# Altium integrated library Infineon_Power_MOSFET.IntLib: 1448 symbols (part 28 of 47)
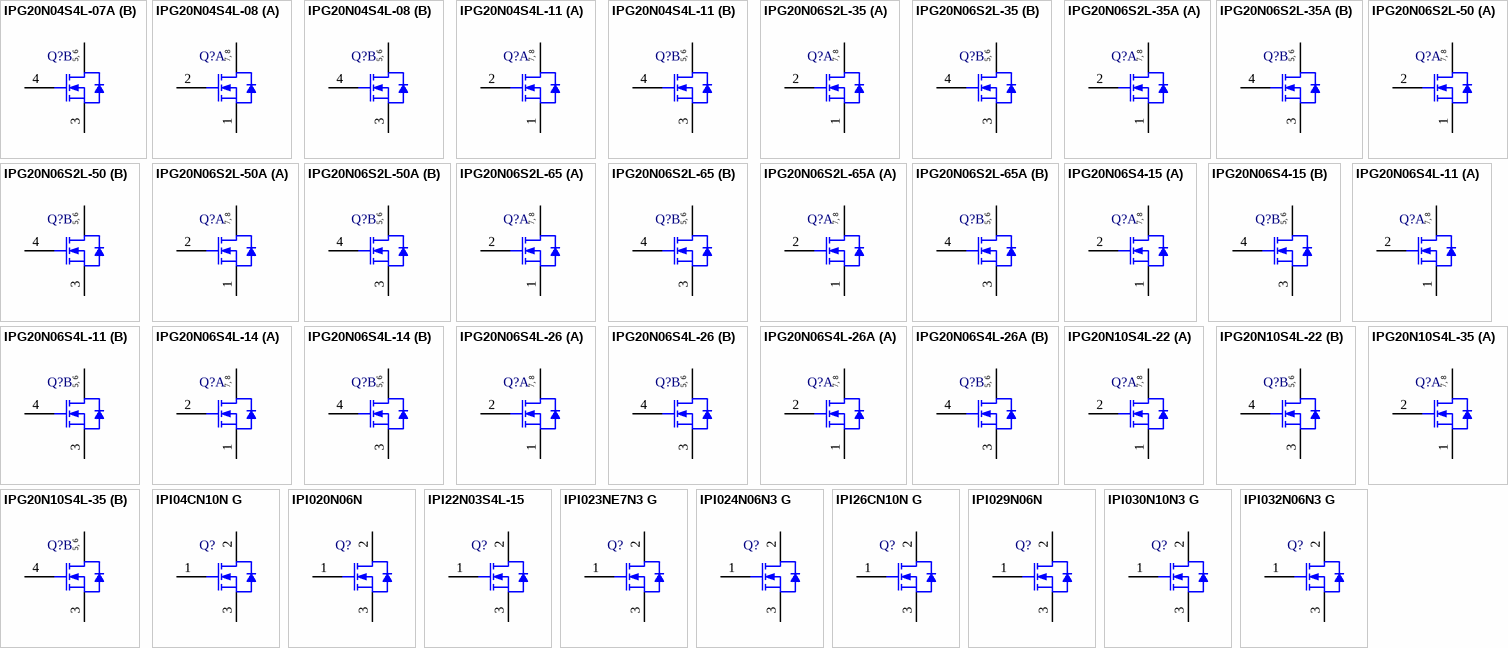
[diagram p64: symbols IPG20N04S4L-07A to IPI032N06N3 G]

## IPG20N04S4L-11
designator Q?
OptiMOS-T2 Power-Transistor, 40 V VDS, 20 A ID, PG-TDSON-8-4, Reel, Green; Manufacturer: Infineon; PartNumber: IPG20N04S4L-11; Green: TRUE; ID (max): 20 A; IDpuls (max): 80 A; Ptot (max): 41 W; QG: 20 nC; RDS (on) (max) (@10V): 11.6 mOhm; RDS (on) (max) (@4.5V): 15.5 mOhm; RthJC (max): 3.7 K/W; VDS (max): 40 V; VGS(th) (max): 2.2 V; VGS(th) (min): 1.2 V; DatasheetVersion: Rev. 1.0; PackageVersion: V03; PackageReference: PG-TDSON-8-4; PackageDescription: 8-Pin Plastic (Green) Thin Dual Small Outline Non Leaded Package, 5.15 x 5.9 mm Body, 1.27 mm Pitch; Supplier 1: Mouser; Supplier Part Number 1: 726-IPG20N04S4L-11; Halogen-free: TRUE; Packing: Reel; Technology: OptiMOS-T2; Mounting Technology: Surface Mount; ComponentLink1Description: Manufacturer URL; ComponentLink1URL: http://www.infineon.com/; ComponentLink2Description: Datasheet; ComponentLink2URL: http://www.infineon.com/dgdl/IPG20N04S4L-11_DS_1_0.pdf?folderId=db3a3043156fd5730115c7d50620107c&fileId=db3a30432ba3fa6f012bbf644b016c14&location=en.Products.Automotive_ICs.Automotive_MOSFETs.Dual__N-Channel_40V_MOSFETs.DATASHEET.IPG20N04S4L-11_DS_1_0.pdf; ComponentLink3Description: Package Specification; ComponentLink3URL: http://www.infineon.com/cms/packages/SMD_-_Surface_Mounted_Devices/P-PG-TDSON/P-PG-TDSON-08-04.html?__locale=en
footprint INF-PG-TDSON-8-4_V (SON, 8-Leads, Body 5.9x5.15mm, Pitch 1.27mm)
part A pins: 1 SOURCE, 2 GATE, 7 DRAIN, 8 DRAIN
part B pins: 3 SOURCE, 4 GATE, 5 DRAIN, 6 DRAIN
part A text: 7, 8
part B text: 5, 6

## IPG20N06S2L-35
designator Q?
OptiMOS Power-Transistor, 55 V VDS, 20 A ID, PG-TDSON-8-4, Reel, Green; Manufacturer: Infineon; PartNumber: IPG20N06S2L-35; Green: TRUE; ID (max): 20 A; IDpuls (max): 80 A; Ptot (max): 65 W; QG: 18 nC; RDS (on) (max) (@10V): 35 mOhm; RDS (on) (max) (@4.5V): 44 mOhm; RthJC (max): 2.3 K/W; VDS (max): 55 V; VGS(th) (max): 2.2 V; VGS(th) (min): 1.2 V; DatasheetVersion: Rev. 1.0; PackageVersion: V03; PackageReference: PG-TDSON-8-4; PackageDescription: 8-Pin Plastic (Green) Thin Dual Small Outline Non Leaded Package, 5.15 x 5.9 mm Body, 1.27 mm Pitch; Supplier 1: Mouser; Supplier Part Number 1: 726-IPG20N06S2L-35; Supplier 2: Digi-Key; Supplier Part Number 2: IPG20N06S2L-35-ND; Halogen-free: TRUE; Packing: Reel; Technology: OptiMOS; Mounting Technology: Surface Mount; ComponentLink1Description: Manufacturer URL; ComponentLink1URL: http://www.infineon.com/; ComponentLink2Description: Datasheet; ComponentLink2URL: http://www.infineon.com/dgdl/IPG20N06S2L-35_DS_10.pdf?folderId=db3a304412b407950112b4322c6d574b&fileId=db3a30432313ff5e0123a3b9596f2692&location=en.Products.Automotive_ICs.Automotive_MOSFETs.Dual__N-Channel_55V_MOSFETs.DATASHEET.IPG20N06S2L-35_DS_10.pdf; ComponentLink3Description: Package Specification; ComponentLink3URL: http://www.infineon.com/cms/packages/SMD_-_Surface_Mounted_Devices/P-PG-TDSON/P-PG-TDSON-08-04.html?__locale=en
footprint INF-PG-TDSON-8-4_V (SON, 8-Leads, Body 5.9x5.15mm, Pitch 1.27mm)
part A pins: 1 SOURCE, 2 GATE, 7 DRAIN, 8 DRAIN
part B pins: 3 SOURCE, 4 GATE, 5 DRAIN, 6 DRAIN
part A text: 7, 8
part B text: 5, 6

## IPG20N06S2L-35A
designator Q?
OptiMOS Power-Transistor, 55 V VDS, 20 A ID, PG-TDSON-8-10, Reel, Green; Manufacturer: Infineon; PartNumber: IPG20N06S2L-35A; Green: TRUE; ID (max): 20 A; IDpuls (max): 80 A; Ptot (max): 65 W; QG: 18 nC; RDS (on) (max) (@10V): 35 mOhm; RDS (on) (max) (@4.5V): 44 mOhm; RthJC (max): 2.3 K/W; VDS (max): 55 V; VGS(th) (max): 2.2 V; VGS(th) (min): 1.2 V; DatasheetVersion: Rev. 1.0; PackageVersion: V03; PackageReference: PG-TDSON-8-10; PackageDescription: 8-Pin Plastic (Green) Thin Dual Small Outline Non Leaded Package, 5.15 x 5.9 mm Body, 1.27 mm Pitch; Halogen-free: TRUE; Packing: Reel; Technology: OptiMOS; Mounting Technology: Surface Mount; ComponentLink1Description: Manufacturer URL; ComponentLink1URL: http://www.infineon.com/; ComponentLink2Description: Datasheet; ComponentLink2URL: http://www.infineon.com/dgdl/IPG20N06S2L-35A_DS_10.pdf?folderId=db3a3043156fd5730115c7d50620107c&fileId=db3a30433d346a2d013d4550adaa5193&location=en.Products.Automotive_ICs.Automotive_MOSFETs.Dual__N-Channel_55V_MOSFETs.DATASHEET.IPG20N06S2L-35A_DS_10.pdf; ComponentLink3Description: Package Specification; ComponentLink3URL: http://www.infineon.com/cms/packages/SMD_-_Surface_Mounted_Devices/P-PG-TDSON/P-PG-TDSON-08-10.html?__locale=en
footprint INF-PG-TDSON-8-10_V (SON, 8-Leads, Body 5.9x5.15mm, Pitch 1.27mm)
part A pins: 1 SOURCE, 2 GATE, 7 DRAIN, 8 DRAIN
part B pins: 3 SOURCE, 4 GATE, 5 DRAIN, 6 DRAIN
part A text: 7, 8
part B text: 5, 6

## IPG20N06S2L-50
designator Q?
OptiMOS Power-Transistor, 55 V VDS, 20 A ID, PG-TDSON-8-4, Reel, Green; Manufacturer: Infineon; PartNumber: IPG20N06S2L-50; Green: TRUE; ID (max): 20 A; IDpuls (max): 80 A; Ptot (max): 51 W; QG: 12.4 nC; RDS (on) (max) (@10V): 50 mOhm; RDS (on) (max) (@4.5V): 60 mOhm; RthJC (max): 2.9 K/W; VDS (max): 55 V; VGS(th) (max): 2.2 V; VGS(th) (min): 1.2 V; DatasheetVersion: Rev. 1.0; PackageVersion: V03; PackageReference: PG-TDSON-8-4; PackageDescription: 8-Pin Plastic (Green) Thin Dual Small Outline Non Leaded Package, 5.15 x 5.9 mm Body, 1.27 mm Pitch; Supplier 1: Mouser; Supplier Part Number 1: 726-IPG20N06S2L-50; Supplier 2: Digi-Key; Supplier Part Number 2: IPG20N06S2L-50-ND; Halogen-free: TRUE; Packing: Reel; Technology: OptiMOS; Mounting Technology: Surface Mount; ComponentLink1Description: Manufacturer URL; ComponentLink1URL: http://www.infineon.com/; ComponentLink2Description: Datasheet; ComponentLink2URL: http://www.infineon.com/dgdl/IPG20N06S2L-50_DS_10.pdf?folderId=db3a304412b407950112b4322c6d574b&fileId=db3a30432313ff5e0123a3bf936226b1&location=en.Products.Automotive_ICs.Automotive_MOSFETs.Dual__N-Channel_55V_MOSFETs.DATASHEET.IPG20N06S2L-50_DS_10.pdf; ComponentLink3Description: Package Specification; ComponentLink3URL: http://www.infineon.com/cms/packages/SMD_-_Surface_Mounted_Devices/P-PG-TDSON/P-PG-TDSON-08-04.html?__locale=en
footprint INF-PG-TDSON-8-4_V (SON, 8-Leads, Body 5.9x5.15mm, Pitch 1.27mm)
part A pins: 1 SOURCE, 2 GATE, 7 DRAIN, 8 DRAIN
part B pins: 3 SOURCE, 4 GATE, 5 DRAIN, 6 DRAIN
part A text: 7, 8
part B text: 5, 6

## IPG20N06S2L-50A
designator Q?
OptiMOS Power-Transistor, 55 V VDS, 20 A ID, PG-TDSON-8-10, Reel, Green; Manufacturer: Infineon; PartNumber: IPG20N06S2L-50A; Green: TRUE; ID (max): 20 A; IDpuls (max): 80 A; Ptot (max): 51 W; QG: 12.4 nC; RDS (on) (max) (@10V): 50 mOhm; RDS (on) (max) (@4.5V): 60 mOhm; RthJC (max): 2.9 K/W; VDS (max): 55 V; VGS(th) (max): 2.2 V; VGS(th) (min): 1.2 V; DatasheetVersion: Rev. 1.0; PackageVersion: V03; PackageReference: PG-TDSON-8-10; PackageDescription: 8-Pin Plastic (Green) Thin Dual Small Outline Non Leaded Package, 5.15 x 5.9 mm Body, 1.27 mm Pitch; Supplier 1: Mouser; Supplier Part Number 1: N/A; Halogen-free: TRUE; Packing: Reel; Technology: OptiMOS; Mounting Technology: Surface Mount; ComponentLink1Description: Manufacturer URL; ComponentLink1URL: http://www.infineon.com/; ComponentLink2Description: Datasheet; ComponentLink2URL: http://www.infineon.com/dgdl/IPG20N06S2L-50A_DS_1_0.pdf?folderId=db3a3043156fd5730115c7d50620107c&fileId=db3a30433d346a2d013d4552ed7b51ae&location=en.Products.Automotive_ICs.Automotive_MOSFETs.Dual__N-Channel_55V_MOSFETs.DATASHEET.IPG20N06S2L-50A_DS_1_0.pdf; ComponentLink3Description: Package Specification; ComponentLink3URL: http://www.infineon.com/cms/packages/SMD_-_Surface_Mounted_Devices/P-PG-TDSON/P-PG-TDSON-08-10.html?__locale=en
footprint INF-PG-TDSON-8-10_V (SON, 8-Leads, Body 5.9x5.15mm, Pitch 1.27mm)
part A pins: 1 SOURCE, 2 GATE, 7 DRAIN, 8 DRAIN
part B pins: 3 SOURCE, 4 GATE, 5 DRAIN, 6 DRAIN
part A text: 7, 8
part B text: 5, 6

## IPG20N06S2L-65
designator Q?
OptiMOS Power-Transistor, 55 V VDS, 20 A ID, PG-TDSON-8-4, Reel, Green; Manufacturer: Infineon; PartNumber: IPG20N06S2L-65; Green: TRUE; ID (max): 20 A; IDpuls (max): 80 A; Ptot (max): 43 W; QG: 10 nC; RDS (on) (max) (@10V): 65 mOhm; RDS (on) (max) (@4.5V): 79 mOhm; RthJC (max): 3.5 K/W; VDS (max): 55 V; VGS(th) (max): 2.2 V; VGS(th) (min): 1.2 V; DatasheetVersion: Rev. 1.0; PackageVersion: V03; PackageReference: PG-TDSON-8-4; PackageDescription: 8-Pin Plastic (Green) Thin Dual Small Outline Non Leaded Package, 5.15 x 5.9 mm Body, 1.27 mm Pitch; Supplier 1: Mouser; Supplier Part Number 1: 726-IPG20N06S2L-65; Supplier 2: Digi-Key; Supplier Part Number 2: IPG20N06S2L-65-ND; Halogen-free: TRUE; Packing: Reel; Technology: OptiMOS; Mounting Technology: Surface Mount; ComponentLink1Description: Manufacturer URL; ComponentLink1URL: http://www.infineon.com/; ComponentLink2Description: Datasheet; ComponentLink2URL: http://www.infineon.com/dgdl/IPG20N06S2L-65_DS_10.pdf?folderId=db3a304412b407950112b4322c6d574b&fileId=db3a30432313ff5e0123a3c2672326cf&location=en.Products.Automotive_ICs.Automotive_MOSFETs.Dual__N-Channel_55V_MOSFETs.DATASHEET.IPG20N06S2L-65_DS_10.pdf; ComponentLink3Description: Package Specification; ComponentLink3URL: http://www.infineon.com/cms/packages/SMD_-_Surface_Mounted_Devices/P-PG-TDSON/P-PG-TDSON-08-04.html?__locale=en
footprint INF-PG-TDSON-8-4_V (SON, 8-Leads, Body 5.9x5.15mm, Pitch 1.27mm)
part A pins: 1 SOURCE, 2 GATE, 7 DRAIN, 8 DRAIN
part B pins: 3 SOURCE, 4 GATE, 5 DRAIN, 6 DRAIN
part A text: 7, 8
part B text: 5, 6

## IPG20N06S2L-65A
designator Q?
OptiMOS Power-Transistor, 55 V VDS, 20 A ID, PG-TDSON-8-10, Reel, Green; Manufacturer: Infineon; PartNumber: IPG20N06S2L-65A; Green: TRUE; ID (max): 20 A; IDpuls (max): 80 A; Ptot (max): 43 W; QG: 10 nC; RDS (on) (max) (@10V): 65 mOhm; RDS (on) (max) (@4.5V): 79 mOhm; RthJC (max): 3.5 K/W; VDS (max): 55 V; VGS(th) (max): 2.2 V; VGS(th) (min): 1.2 V; DatasheetVersion: Rev. 1.0; PackageVersion: V03; PackageReference: PG-TDSON-8-10; PackageDescription: 8-Pin Plastic (Green) Thin Dual Small Outline Non Leaded Package, 5.15 x 5.9 mm Body, 1.27 mm Pitch; Halogen-free: TRUE; Packing: Reel; Technology: OptiMOS; Mounting Technology: Surface Mount; ComponentLink1Description: Manufacturer URL; ComponentLink1URL: http://www.infineon.com/; ComponentLink2Description: Datasheet; ComponentLink2URL: http://www.infineon.com/dgdl/IPG20N06S2L-65A_D_10.pdf?folderId=db3a3043156fd5730115c7d50620107c&fileId=db3a30433d346a2d013d4555276651ce&location=en.Products.Automotive_ICs.Automotive_MOSFETs.Dual__N-Channel_55V_MOSFETs.DATASHEET.IPG20N06S2L-65A_D_10.pdf; ComponentLink3Description: Package Specification; ComponentLink3URL: http://www.infineon.com/cms/packages/SMD_-_Surface_Mounted_Devices/P-PG-TDSON/P-PG-TDSON-08-10.html?__locale=en
footprint INF-PG-TDSON-8-10_V (SON, 8-Leads, Body 5.9x5.15mm, Pitch 1.27mm)
part A pins: 1 SOURCE, 2 GATE, 7 DRAIN, 8 DRAIN
part B pins: 3 SOURCE, 4 GATE, 5 DRAIN, 6 DRAIN
part A text: 7, 8
part B text: 5, 6

## IPG20N06S4-15
designator Q?
OptiMOS-T2 Power-Transistor, 60 V VDS, 20 A ID, PG-TDSON-8-4, Reel, Green; Manufacturer: Infineon; PartNumber: IPG20N06S4-15; Green: TRUE; ID (max): 20 A; IDpuls (max): 80 A; Ptot (max): 50 W; QG: 22 nC; RDS (on) (max) (@10V): 15.5 mOhm; RthJC (max): 3 K/W; VDS (max): 60 V; VGS(th) (max): 4 V; VGS(th) (min): 2 V; DatasheetVersion: Rev. 1.0; PackageVersion: V03; PackageReference: PG-TDSON-8-4; PackageDescription: 8-Pin Plastic (Green) Thin Dual Small Outline Non Leaded Package, 5.15 x 5.9 mm Body, 1.27 mm Pitch; Supplier 1: Mouser; Supplier Part Number 1: 726-IPG20N06S4-15; Halogen-free: TRUE; Packing: Reel; Technology: OptiMOS-T2; Mounting Technology: Surface Mount; ComponentLink1Description: Manufacturer URL; ComponentLink1URL: http://www.infineon.com/; ComponentLink2Description: Datasheet; ComponentLink2URL: http://www.infineon.com/dgdl/IPG20N06S4-15_DS_1_0.pdf?folderId=db3a3043156fd5730115c7d50620107c&fileId=db3a30432ba3fa6f012bbf657f886c19&location=en.Products.Automotive_ICs.Automotive_MOSFETs.Dual__N-Channel_60V_MOSFETs.DATASHEET.IPG20N06S4-15_DS_1_0.pdf; ComponentLink3Description: Package Specification; ComponentLink3URL: http://www.infineon.com/cms/packages/SMD_-_Surface_Mounted_Devices/P-PG-TDSON/P-PG-TDSON-08-04.html?__locale=en
footprint INF-PG-TDSON-8-4_V (SON, 8-Leads, Body 5.9x5.15mm, Pitch 1.27mm)
part A pins: 1 SOURCE, 2 GATE, 7 DRAIN, 8 DRAIN
part B pins: 3 SOURCE, 4 GATE, 5 DRAIN, 6 DRAIN
part A text: 7, 8
part B text: 5, 6

## IPG20N06S4L-11
designator Q?
OptiMOS-T2 Power-Transistor, 60 V VDS, 20 A ID, PG-TDSON-8-4, Reel, Green; Manufacturer: Infineon; PartNumber: IPG20N06S4L-11; Green: TRUE; ID (max): 20 A; IDpuls (max): 80 A; Ptot (max): 65 W; QG: 41 nC; RDS (on) (max) (@10V): 11.2 mOhm; RDS (on) (max) (@4.5V): 15.8 mOhm; RthJC (max): 2.3 K/W; VDS (max): 60 V; VGS(th) (max): 2.2 V; VGS(th) (min): 1.2 V; DatasheetVersion: Rev. 1.0; PackageVersion: V03; PackageReference: PG-TDSON-8-4; PackageDescription: 8-Pin Plastic (Green) Thin Dual Small Outline Non Leaded Package, 5.15 x 5.9 mm Body, 1.27 mm Pitch; Supplier 1: Mouser; Supplier Part Number 1: 726-IPG20N06S4L-11; Halogen-free: TRUE; Packing: Reel; Technology: OptiMOS-T2; Mounting Technology: Surface Mount; ComponentLink1Description: Manufacturer URL; ComponentLink1URL: http://www.infineon.com/; ComponentLink2Description: Datasheet; ComponentLink2URL: http://www.infineon.com/dgdl/IPG20N06S4L-11_DS_1_0.pdf?folderId=db3a3043156fd5730115c7d50620107c&fileId=db3a30432ba3fa6f012bbf66f8b06c1e&location=en.Products.Automotive_ICs.Automotive_MOSFETs.Dual__N-Channel_60V_MOSFETs.DATASHEET.IPG20N06S4L-11_DS_1_0.pdf; ComponentLink3Description: Package Specification; ComponentLink3URL: http://www.infineon.com/cms/packages/SMD_-_Surface_Mounted_Devices/P-PG-TDSON/P-PG-TDSON-08-04.html?__locale=en
footprint INF-PG-TDSON-8-4_V (SON, 8-Leads, Body 5.9x5.15mm, Pitch 1.27mm)
part A pins: 1 SOURCE, 2 GATE, 7 DRAIN, 8 DRAIN
part B pins: 3 SOURCE, 4 GATE, 5 DRAIN, 6 DRAIN
part A text: 7, 8
part B text: 5, 6

## IPG20N06S4L-14
designator Q?
OptiMOS-T2 Power-Transistor, 60 V VDS, 20 A ID, PG-TDSON-8-4, Reel, Green; Manufacturer: Infineon; PartNumber: IPG20N06S4L-14; Green: TRUE; ID (max): 20 A; IDpuls (max): 80 A; Ptot (max): 50 W; QG: 30 nC; RDS (on) (max) (@10V): 13.7 mOhm; RDS (on) (max) (@4.5V): 20 mOhm; RthJC (max): 3 K/W; VDS (max): 60 V; VGS(th) (max): 2.2 V; VGS(th) (min): 1.2 V; DatasheetVersion: Rev. 1.0; PackageVersion: V03; PackageReference: PG-TDSON-8-4; PackageDescription: 8-Pin Plastic (Green) Thin Dual Small Outline Non Leaded Package, 5.15 x 5.9 mm Body, 1.27 mm Pitch; Supplier 1: Mouser; Supplier Part Number 1: 726-IPG20N06S4L-14; Halogen-free: TRUE; Packing: Reel; Technology: OptiMOS-T2; Mounting Technology: Surface Mount; ComponentLink1Description: Manufacturer URL; ComponentLink1URL: http://www.infineon.com/; ComponentLink2Description: Datasheet; ComponentLink2URL: http://www.infineon.com/dgdl/IPG20N06S4L-14_DS_1_0.pdf?folderId=db3a3043156fd5730115c7d50620107c&fileId=db3a30432ba3fa6f012bbf67e32d6c23&location=en.Products.Automotive_ICs.Automotive_MOSFETs.Dual__N-Channel_60V_MOSFETs.DATASHEET.IPG20N06S4L-14_DS_1_0.pdf; ComponentLink3Description: Package Specification; ComponentLink3URL: http://www.infineon.com/cms/packages/SMD_-_Surface_Mounted_Devices/P-PG-TDSON/P-PG-TDSON-08-04.html?__locale=en
footprint INF-PG-TDSON-8-4_V (SON, 8-Leads, Body 5.9x5.15mm, Pitch 1.27mm)
part A pins: 1 SOURCE, 2 GATE, 7 DRAIN, 8 DRAIN
part B pins: 3 SOURCE, 4 GATE, 5 DRAIN, 6 DRAIN
part A text: 7, 8
part B text: 5, 6

## IPG20N06S4L-26
designator Q?
OptiMOS-T2 Power-Transistor, 60 V VDS, 20 A ID, PG-TDSON-8-4, Reel, Green; Manufacturer: Infineon; PartNumber: IPG20N06S4L-26; Green: TRUE; ID (max): 20 A; IDpuls (max): 80 A; Ptot (max): 33 W; QG: 20 nC; RDS (on) (max) (@10V): 26 mOhm; RDS (on) (max) (@4.5V): 46 mOhm; RthJC (max): 4.5 K/W; VDS (max): 60 V; VGS(th) (max): 2.2 V; VGS(th) (min): 1.2 V; DatasheetVersion: Rev. 1.0; PackageVersion: V03; PackageReference: PG-TDSON-8-4; PackageDescription: 8-Pin Plastic (Green) Thin Dual Small Outline Non Leaded Package, 5.15 x 5.9 mm Body, 1.27 mm Pitch; Supplier 1: Mouser; Supplier Part Number 1: 726-IPG20N06S4L-26; Halogen-free: TRUE; Packing: Reel; Technology: OptiMOS-T2; Mounting Technology: Surface Mount; ComponentLink1Description: Manufacturer URL; ComponentLink1URL: http://www.infineon.com/; ComponentLink2Description: Datasheet; ComponentLink2URL: http://www.infineon.com/dgdl/IPG20N06S4L-26_DS_1_0.pdf?folderId=db3a3043156fd5730115c7d50620107c&fileId=db3a30432ba3fa6f012bbf68dd216c28&location=en.Products.Automotive_ICs.Automotive_MOSFETs.Dual__N-Channel_60V_MOSFETs.DATASHEET.IPG20N06S4L-26_DS_1_0.pdf; ComponentLink3Description: Package Specification; ComponentLink3URL: http://www.infineon.com/cms/packages/SMD_-_Surface_Mounted_Devices/P-PG-TDSON/P-PG-TDSON-08-04.html?__locale=en
footprint INF-PG-TDSON-8-4_V (SON, 8-Leads, Body 5.9x5.15mm, Pitch 1.27mm)
part A pins: 1 SOURCE, 2 GATE, 7 DRAIN, 8 DRAIN
part B pins: 3 SOURCE, 4 GATE, 5 DRAIN, 6 DRAIN
part A text: 7, 8
part B text: 5, 6

## IPG20N06S4L-26A
designator Q?
OptiMOS-T2 Power-Transistor, 60 V VDS, 20 A ID, PG-TDSON-8-10, Reel, Green; Manufacturer: Infineon; PartNumber: IPG20N06S4L-26A; Green: TRUE; ID (max): 20 A; IDpuls (max): 80 A; Ptot (max): 33 W; QG: 20 nC; RDS (on) (max) (@10V): 26 mOhm; RDS (on) (max) (@4.5V): 46 mOhm; RthJC (max): 4.5 K/W; VDS (max): 60 V; VGS(th) (max): 2.2 V; VGS(th) (min): 1.2 V; DatasheetVersion: Rev. 1.0; PackageVersion: V03; PackageReference: PG-TDSON-8-10; PackageDescription: 8-Pin Plastic (Green) Thin Dual Small Outline Non Leaded Package, 5.15 x 5.9 mm Body, 1.27 mm Pitch; Supplier 1: Mouser; Supplier Part Number 1: N/A; Halogen-free: TRUE; Packing: Reel; Technology: OptiMOS-T2; Mounting Technology: Surface Mount; ComponentLink1Description: Manufacturer URL; ComponentLink1URL: http://www.infineon.com/; ComponentLink2Description: Datasheet; ComponentLink2URL: http://www.infineon.com/dgdl/IPG20N06S4L-26A_DS_1_0.pdf?folderId=db3a3043156fd5730115c7d50620107c&fileId=db3a30433d346a2d013d454e0c275177&location=en.Products.Automotive_ICs.Automotive_MOSFETs.Dual__N-Channel_60V_MOSFETs.DATASHEET.IPG20N06S4L-26A_DS_1_0.pdf; ComponentLink3Description: Package Specification; ComponentLink3URL: http://www.infineon.com/cms/packages/SMD_-_Surface_Mounted_Devices/P-PG-TDSON/P-PG-TDSON-08-10.html?__locale=en
footprint INF-PG-TDSON-8-10_V (SON, 8-Leads, Body 5.9x5.15mm, Pitch 1.27mm)
part A pins: 1 SOURCE, 2 GATE, 7 DRAIN, 8 DRAIN
part B pins: 3 SOURCE, 4 GATE, 5 DRAIN, 6 DRAIN
part A text: 7, 8
part B text: 5, 6

## IPG20N10S4L-22
designator Q?
OptiMOS-T2 Power-Transistor, 100 V VDS, 20 A ID, PG-TDSON-8-4, Reel, Green; Manufacturer: Infineon; PartNumber: IPG20N10S4L-22; Green: TRUE; ID (max): 20 A; IDpuls (max): 80 A; Ptot (max): 60 W; QG: 21 nC; RDS (on) (max) (@10V): 22 mOhm; RDS (on) (max) (@4.5V): 28 mOhm; RthJC (max): 2.5 K/W; VDS (max): 100 V; VGS(th) (max): 2.1 V; VGS(th) (min): 1.1 V; DatasheetVersion: Rev. 1.1; PackageVersion: V03; PackageReference: PG-TDSON-8-4; PackageDescription: 8-Pin Plastic (Green) Thin Dual Small Outline Non Leaded Package, 5.15 x 5.9 mm Body, 1.27 mm Pitch; Halogen-free: TRUE; Packing: Reel; Technology: OptiMOS-T2; Mounting Technology: Surface Mount; ComponentLink1Description: Manufacturer URL; ComponentLink1URL: http://www.infineon.com/; ComponentLink2Description: Datasheet; ComponentLink2URL: http://www.infineon.com/dgdl/IPG20N10S4L-22_DS_1_1.pdf?folderId=db3a3043156fd5730115c7d50620107c&fileId=db3a3043372d5cc801374ffbdf9504fd&location=en.Products.Automotive_ICs.Automotive_MOSFETs.Dual__N-Channel_100V_MOSFETs.DATASHEET.IPG20N10S4L-22_DS_1_1.pdf; ComponentLink3Description: Package Specification; ComponentLink3URL: http://www.infineon.com/cms/packages/SMD_-_Surface_Mounted_Devices/P-PG-TDSON/P-PG-TDSON-08-04.html?__locale=en
footprint INF-PG-TDSON-8-4_V (SON, 8-Leads, Body 5.9x5.15mm, Pitch 1.27mm)
part A pins: 1 SOURCE, 2 GATE, 7 DRAIN, 8 DRAIN
part B pins: 3 SOURCE, 4 GATE, 5 DRAIN, 6 DRAIN
part A text: 7, 8
part B text: 5, 6

## IPG20N10S4L-35
designator Q?
OptiMOS-T2 Power-Transistor, 100 V VDS, 20 A ID, PG-TDSON-8-4, Reel, Green; Manufacturer: Infineon; PartNumber: IPG20N10S4L-35; Green: TRUE; ID (max): 20 A; IDpuls (max): 80 A; Ptot (max): 43 W; QG: 13.4 nC; RDS (on) (max) (@10V): 35 mOhm; RDS (on) (max) (@4.5V): 45 mOhm; RthJC (max): 3.5 K/W; VDS (max): 100 V; VGS(th) (max): 2.1 V; VGS(th) (min): 1.1 V; DatasheetVersion: Rev. 1.1; PackageVersion: V03; PackageReference: PG-TDSON-8-4; PackageDescription: 8-Pin Plastic (Green) Thin Dual Small Outline Non Leaded Package, 5.15 x 5.9 mm Body, 1.27 mm Pitch; Halogen-free: TRUE; Packing: Reel; Technology: OptiMOS-T2; Mounting Technology: Surface Mount; ComponentLink1Description: Manufacturer URL; ComponentLink1URL: http://www.infineon.com/; ComponentLink2Description: Datasheet; ComponentLink2URL: http://www.infineon.com/dgdl/IPG20N10S4L-35_DS_1_1.pdf?folderId=db3a3043156fd5730115c7d50620107c&fileId=db3a3043372d5cc8013750d7337e05fd&location=en.Products.Automotive_ICs.Automotive_MOSFETs.Dual__N-Channel_100V_MOSFETs.DATASHEET.IPG20N10S4L-35_DS_1_1.pdf; ComponentLink3Description: Package Specification; ComponentLink3URL: http://www.infineon.com/cms/packages/SMD_-_Surface_Mounted_Devices/P-PG-TDSON/P-PG-TDSON-08-04.html?__locale=en
footprint INF-PG-TDSON-8-4_V (SON, 8-Leads, Body 5.9x5.15mm, Pitch 1.27mm)
part A pins: 1 SOURCE, 2 GATE, 7 DRAIN, 8 DRAIN
part B pins: 3 SOURCE, 4 GATE, 5 DRAIN, 6 DRAIN
part A text: 7, 8
part B text: 5, 6

## IPI04CN10N G
designator Q?
N-Channel OptiMOS 2 Power-Transistor, 100 V VDS, 100 A ID, -55 to 175 degC, PG-TO-262-3-1, Tube, Green; Manufacturer: Infineon; PartNumber: IPI04CN10N G; Green: TRUE; ID (max): 100 A; IDpuls (max): 400 A; Polarity: N; Ptot (max): 300 W; QG: 158 nC; RDS (on) (max): 3.9 mOhm; Rth: 0.5 K/W; RthJA (max): 62 K/W; VDS (max): 100 V; VGS(th) (max): 4 V; VGS(th) (min): 2 V; DatasheetVersion: Rev. 1.4; PackageVersion: Jun-05; PackageReference: PG-TO-262-3-1; PackageDescription: 3-Pin Plastic (Green) Transistor Single Outline Package, 10 x 9.25 mm Body, 2.54 mm Pitch; Supplier 1: Digi-Key; Supplier Part Number 1: IPI04CN10N G-ND; Halogen-free: TRUE; Packing: Tube; RthJC (max): 0.5 K/W; Mounting Technology: Through Hole; ComponentLink1Description: Manufacturer URL; ComponentLink1URL: http://www.infineon.com/; ComponentLink2Description: Datasheet; ComponentLink2URL: http://www.infineon.com/dgdl/IPP04CN10N_Rev1.4.pdf?folderId=db3a304313b8b5a60113cee8763b02d7&fileId=db3a30432313ff5e012393a80d1d03d8; ComponentLink3Description: Package Specification; ComponentLink3URL: http://www.infineon.com/dgdl/IPP04CN10N_Rev1.4.pdf?folderId=db3a304313b8b5a60113cee8763b02d7&fileId=db3a30432313ff5e012393a80d1d03d8
footprint INF-PG-TO-262-3-1 (FM, 3-Leads, Body 10x4.4mm, Pitch 2.54mm)
pins: 1 GATE, 2 DRAIN, 3 SOURCE

## IPI020N06N
designator Q?
N-Channel OptiMOS Power-Transistor, 60 V VDS, 120 A ID, -55 to 175 degC, PG-TO262-3-1, Tube, Green; Manufacturer: Infineon; PartNumber: IPI020N06N; Green: TRUE; ID (max): 120 A; IDpuls (max): 480 A; Polarity: N; Ptot (max): 214 W; QG: 106 nC; RDS (on) (max): 2 mOhm; Rth: 0.7 K/W; RthJA (max): 62 K/W; VDS (max): 60 V; VGS(th) (max): 3.3 V; VGS(th) (min): 2.1 V; DatasheetVersion: Rev. 2.2; PackageVersion: Rev. 03, 05/2006; PackageReference: PG-TO262-3-1; PackageDescription: 3-Pin Plastic (Green) Transistor Single Outline Package, 10.03 x 8.98 mm Body, 2.54 mm Pitch; Supplier 1: Digi-Key; Supplier Part Number 1: IPI020N06N-ND; Halogen-free: TRUE; Packing: Tube; RthJC (max): 0.7 K/W; Mounting Technology: Through Hole; ComponentLink1Description: Manufacturer URL; ComponentLink1URL: http://www.infineon.com/; ComponentLink2Description: Datasheet; ComponentLink2URL: http://www.infineon.com/dgdl/IPI020N06N_Rev2.2.pdf?folderId=db3a304313b8b5a60113cee8763b02d7&fileId=db3a30433727a44301372b6b23064900; ComponentLink3Description: Package Specification; ComponentLink3URL: http://www.infineon.com/dgdl/DS_IPX65R420CFD_2_4.pdf?folderId=db3a3043156fd5730115c736bcc70ff2&fileId=db3a30432f91014f012f9c293f1a7399
footprint INF-PG-TO262-3-1_A (FM, 3-Leads, Body 10.03x4.436mm, Pitch 2.54mm)
pins: 1 GATE, 2 DRAIN, 3 SOURCE

## IPI22N03S4L-15
designator Q?
OptiMOS-T2 Power-Transistor, 30 V VDS, 22 A ID, PG-TO262-3-1, Tube, Green; Manufacturer: Infineon; PartNumber: IPI22N03S4L-15; Green: TRUE; ID (max): 22 A; IDpuls (max): 88 A; Ptot (max): 31 W; QG: 11 nC; RDS (on) (max) (@10V): 14.9 mOhm; RDS (on) (max) (@4.5V): 19.8 mOhm; RthJC (max): 4.9 K/W; VDS (max): 30 V; VGS(th) (max): 2.2 V; VGS(th) (min): 1 V; DatasheetVersion: Rev. 2.0; PackageReference: PG-TO262-3-1; PackageDescription: 3-Pin Plastic (Green) Transistor Single Outline Package, 10 x 9.25 mm Body, 2.54 mm Pitch; Supplier 1: Mouser; Supplier Part Number 1: 726-IPI22N03S4L-15; Supplier 2: Digi-Key; Supplier Part Number 2: IPI22N03S4L-15-ND; Halogen-free: TRUE; Packing: Tube; Technology: OptiMOS-T2; Mounting Technology: Through Hole; ComponentLink1Description: Manufacturer URL; ComponentLink1URL: http://www.infineon.com/; ComponentLink2Description: Datasheet; ComponentLink2URL: http://www.infineon.com/dgdl/IPP_B_I22N03S4L-15_DS_2_0.pdf?folderId=db3a304412b407950112b426f7da3b27&fileId=db3a304412b407950112b426fb903b3b&location=en.Products.Automotive_ICs.Automotive_MOSFETs.Single__N-Channel_30V_MOSFETs.DATASHEET.IPP_B_I22N03S4L-15_DS_2_0.pdf; ComponentLink3Description: Package Specification; ComponentLink3URL: http://www.infineon.com/cms/packages/Leaded_and_through-hole/P-PG-TO262/P-PG-TO262-3-1.html?__locale=en
footprint INF-PG-TO262-3-1 (FM, 3-Leads, Body 10x4.4mm, Pitch 2.54mm)
pins: 1 GATE, 2 DRAIN, 3 SOURCE

## IPI023NE7N3 G
designator Q?
N-Channel OptiMOS 3 Power-Transistor, 75 V VDS, 120 A ID, -55 to 175 degC, PG-TO262-3-1, Tube, Green; Manufacturer: Infineon; PartNumber: IPI023NE7N3 G; Green: TRUE; ID (max): 120 A; IDpuls (max): 480 A; Polarity: N; Ptot (max): 300 W; QG: 155 nC; RDS (on) (max): 2.3 mOhm; Rth: 0.5 K/W; RthJA (max): 62 K/W; VDS (max): 75 V; VGS(th) (max): 3.8 V; VGS(th) (min): 2.3 V; DatasheetVersion: Rev. 2.11; PackageVersion: Rev. 03, 05/2006; PackageReference: PG-TO262-3-1; PackageDescription: 3-Pin Plastic (Green) Transistor Single Outline Package, 10.03 x 8.98 mm Body, 2.54 mm Pitch; Supplier 1: Mouser; Supplier Part Number 1: 726-IPI023NE7N3G; Supplier 2: Digi-Key; Supplier Part Number 2: IPI023NE7N3 G-ND; Halogen-free: TRUE; Packing: Tube; RthJC (max): 0.5 K/W; Mounting Technology: Through Hole; ComponentLink1Description: Manufacturer URL; ComponentLink1URL: http://www.infineon.com/; ComponentLink2Description: Datasheet; ComponentLink2URL: http://www.infineon.com/dgdl/IPP_I023NE7N3_Rev2+11.pdf?folderId=db3a304313b8b5a60113cee8763b02d7&fileId=db3a304320d39d5901210a9da8c22702; ComponentLink3Description: Package Specification; ComponentLink3URL: http://www.infineon.com/dgdl/DS_IPX65R420CFD_2_4.pdf?folderId=db3a3043156fd5730115c736bcc70ff2&fileId=db3a30432f91014f012f9c293f1a7399
footprint INF-PG-TO262-3-1_A (FM, 3-Leads, Body 10.03x4.436mm, Pitch 2.54mm)
pins: 1 GATE, 2 DRAIN, 3 SOURCE

## IPI024N06N3 G
designator Q?
N-Channel OptiMOS 3 Power-Transistor, 60 V VDS, 120 A ID, -55 to 175 degC, PG-TO262-3-1, Tube, Green; Manufacturer: Infineon; PartNumber: IPI024N06N3 G; Green: TRUE; ID (max): 120 A; IDpuls (max): 480 A; Polarity: N; Ptot (max): 250 W; QG: 206 nC; RDS (on) (max): 2.4 mOhm; Rth: 0.6 K/W; RthJA (max): 62 K/W; VDS (max): 60 V; VGS(th) (max): 4 V; VGS(th) (min): 2 V; DatasheetVersion: Rev. 2.2; PackageVersion: Rev. 03, 05/2006; PackageReference: PG-TO262-3-1; PackageDescription: 3-Pin Plastic (Green) Transistor Single Outline Package, 10.03 x 8.98 mm Body, 2.54 mm Pitch; Supplier 1: Digi-Key; Supplier Part Number 1: IPI024N06N3 G-ND; Halogen-free: TRUE; Packing: Tube; RthJC (max): 0.6 K/W; Mounting Technology: Through Hole; ComponentLink1Description: Manufacturer URL; ComponentLink1URL: http://www.infineon.com/; ComponentLink2Description: Datasheet; ComponentLink2URL: http://www.infineon.com/dgdl/IPP024N06N3_Rev2.2.pdf?folderId=db3a304313b8b5a60113cee8763b02d7&fileId=db3a30432313ff5e01239f1f52a67151; ComponentLink3Description: Package Specification; ComponentLink3URL: http://www.infineon.com/dgdl/DS_IPX65R420CFD_2_4.pdf?folderId=db3a3043156fd5730115c736bcc70ff2&fileId=db3a30432f91014f012f9c293f1a7399
footprint INF-PG-TO262-3-1_A (FM, 3-Leads, Body 10.03x4.436mm, Pitch 2.54mm)
pins: 1 GATE, 2 DRAIN, 3 SOURCE

## IPI26CN10N G
designator Q?
OptiMOS 2 Power-Transistor, 100 V VDS, PG-TO262-3-1, Tube, Green; Manufacturer: Infineon; PartNumber: IPI26CN10N G; Green: TRUE; Polarity: N; RDS (on) (max): 26 mOhm; VDS (max): 100 V; DatasheetVersion: Rev. 1.08; PackageVersion: Rev. 03, 05/2006; PackageReference: PG-TO262-3-1; PackageDescription: 3-Pin Plastic (Green) Transistor Single Outline Package, 10.03 x 8.98 mm Body, 2.54 mm Pitch; Supplier 1: Mouser; Supplier Part Number 1: 726-IPI26CN10NG; Supplier 2: Digi-Key; Supplier Part Number 2: IPI26CN10N G-ND; Halogen-free: TRUE; Mounting Technology: Through Hole; ComponentLink1Description: Manufacturer URL; ComponentLink1URL: http://www.infineon.com/; ComponentLink2Description: Datasheet; ComponentLink2URL: http://www.infineon.com/dgdl/IPP26CN10N_Rev18.pdf?folderId=db3a304313b8b5a60113cee8763b02d7&fileId=db3a30432313ff5e012393d285660441; ComponentLink3Description: Package Specification; ComponentLink3URL: http://www.infineon.com/dgdl/DS_IPX65R420CFD_2_4.pdf?folderId=db3a3043156fd5730115c736bcc70ff2&fileId=db3a30432f91014f012f9c293f1a7399
footprint INF-PG-TO262-3-1_A (FM, 3-Leads, Body 10.03x4.436mm, Pitch 2.54mm)
pins: 1 GATE, 2 DRAIN, 3 SOURCE

## IPI029N06N
designator Q?
N-Channel OptiMOS Power-Transistor, 60 V VDS, 100 A ID, -55 to 175 degC, PG-TO262-3-1, Tube, Green; Manufacturer: Infineon; PartNumber: IPI029N06N; Green: TRUE; ID (max): 100 A; IDpuls (max): 400 A; Polarity: N; Ptot (max): 136 W; QG: 56 nC; RDS (on) (max): 2.9 mOhm; Rth: 1.1 K/W; RthJA (max): 62 K/W; VDS (max): 60 V; VGS(th) (max): 3.3 V; VGS(th) (min): 2.1 V; DatasheetVersion: Rev. 2.2; PackageVersion: Rev. 03, 05/2006; PackageReference: PG-TO262-3-1; PackageDescription: 3-Pin Plastic (Green) Transistor Single Outline Package, 10.03 x 8.98 mm Body, 2.54 mm Pitch; Supplier 1: Digi-Key; Supplier Part Number 1: IPI029N06N-ND; Halogen-free: TRUE; Packing: Tube; RthJC (max): 1.1 K/W; Mounting Technology: Through Hole; ComponentLink1Description: Manufacturer URL; ComponentLink1URL: http://www.infineon.com/; ComponentLink2Description: Datasheet; ComponentLink2URL: http://www.infineon.com/dgdl/IPI029N06N_Rev2.2.pdf?folderId=db3a304313b8b5a60113cee8763b02d7&fileId=db3a30433727a44301372bab38f54926; ComponentLink3Description: Package Specification; ComponentLink3URL: http://www.infineon.com/dgdl/DS_IPX65R420CFD_2_4.pdf?folderId=db3a3043156fd5730115c736bcc70ff2&fileId=db3a30432f91014f012f9c293f1a7399
footprint INF-PG-TO262-3-1_A (FM, 3-Leads, Body 10.03x4.436mm, Pitch 2.54mm)
pins: 1 GATE, 2 DRAIN, 3 SOURCE

## IPI030N10N3 G
designator Q?
N-Channel OptiMOS 3 Power-Transistor, 100 V VDS, 100 A ID, -55 to 175 degC, PG-TO262-3-1, Tube, Green; Manufacturer: Infineon; PartNumber: IPI030N10N3 G; Green: TRUE; ID (max): 100 A; IDpuls (max): 400 A; Polarity: N; Ptot (max): 300 W; QG: 155 nC; RDS (on) (max): 3 mOhm; Rth: 0.5 K/W; RthJA (max): 62 K/W; VDS (max): 100 V; VGS(th) (max): 3.5 V; VGS(th) (min): 2 V; DatasheetVersion: Rev. 2.1; PackageVersion: Rev. 03, 05/2006; PackageReference: PG-TO262-3-1; PackageDescription: 3-Pin Plastic (Green) Transistor Single Outline Package, 10.03 x 8.98 mm Body, 2.54 mm Pitch; Supplier 1: Mouser; Supplier Part Number 1: 726-IPI030N10N3G; Supplier 2: Digi-Key; Supplier Part Number 2: IPI030N10N3 G-ND; Halogen-free: TRUE; Packing: Tube; RthJC (max): 0.5 K/W; Mounting Technology: Through Hole; ComponentLink1Description: Manufacturer URL; ComponentLink1URL: http://www.infineon.com/; ComponentLink2Description: Datasheet; ComponentLink2URL: http://www.infineon.com/dgdl/IPP030N10N3+G_Rev2%5B1%5D.1.pdf?folderId=db3a304313b8b5a60113cee8763b02d7&fileId=db3a30432313ff5e0123939fdbcf03c9; ComponentLink3Description: Package Specification; ComponentLink3URL: http://www.infineon.com/dgdl/DS_IPX65R420CFD_2_4.pdf?folderId=db3a3043156fd5730115c736bcc70ff2&fileId=db3a30432f91014f012f9c293f1a7399
footprint INF-PG-TO262-3-1_A (FM, 3-Leads, Body 10.03x4.436mm, Pitch 2.54mm)
pins: 1 GATE, 2 DRAIN, 3 SOURCE

## IPI032N06N3 G
designator Q?
N-Channel OptiMOS 3 Power-Transistor, 60 V VDS, 120 A ID, -55 to 175 degC, PG-TO262-3-1, Tube, Green; Manufacturer: Infineon; PartNumber: IPI032N06N3 G; Green: TRUE; ID (max): 120 A; IDpuls (max): 480 A; Polarity: N; Ptot (max): 188 W; QG: 124 nC; RDS (on) (max): 3.2 mOhm; Rth: 0.8 K/W; RthJA (max): 62 K/W; VDS (max): 60 V; VGS(th) (max): 4 V; VGS(th) (min): 2 V; DatasheetVersion: Rev. 2.2; PackageVersion: Rev. 03, 05/2006; PackageReference: PG-TO262-3-1; PackageDescription: 3-Pin Plastic (Green) Transistor Single Outline Package, 10.03 x 8.98 mm Body, 2.54 mm Pitch; Supplier 1: Mouser; Supplier Part Number 1: 726-IPI032N06N3G; Supplier 2: Digi-Key; Supplier Part Number 2: IPI032N06N3 G-ND; Halogen-free: TRUE; Packing: Tube; RthJC (max): 0.8 K/W; Mounting Technology: Through Hole; ComponentLink1Description: Manufacturer URL; ComponentLink1URL: http://www.infineon.com/; ComponentLink2Description: Datasheet; ComponentLink2URL: http://www.infineon.com/dgdl/IPP032N06N3_Rev2.2.pdf?folderId=db3a304313b8b5a60113cee8763b02d7&fileId=db3a30432313ff5e01239f2567817160; ComponentLink3Description: Package Specification; ComponentLink3URL: http://www.infineon.com/dgdl/DS_IPX65R420CFD_2_4.pdf?folderId=db3a3043156fd5730115c736bcc70ff2&fileId=db3a30432f91014f012f9c293f1a7399
footprint INF-PG-TO262-3-1_A (FM, 3-Leads, Body 10.03x4.436mm, Pitch 2.54mm)
pins: 1 GATE, 2 DRAIN, 3 SOURCE

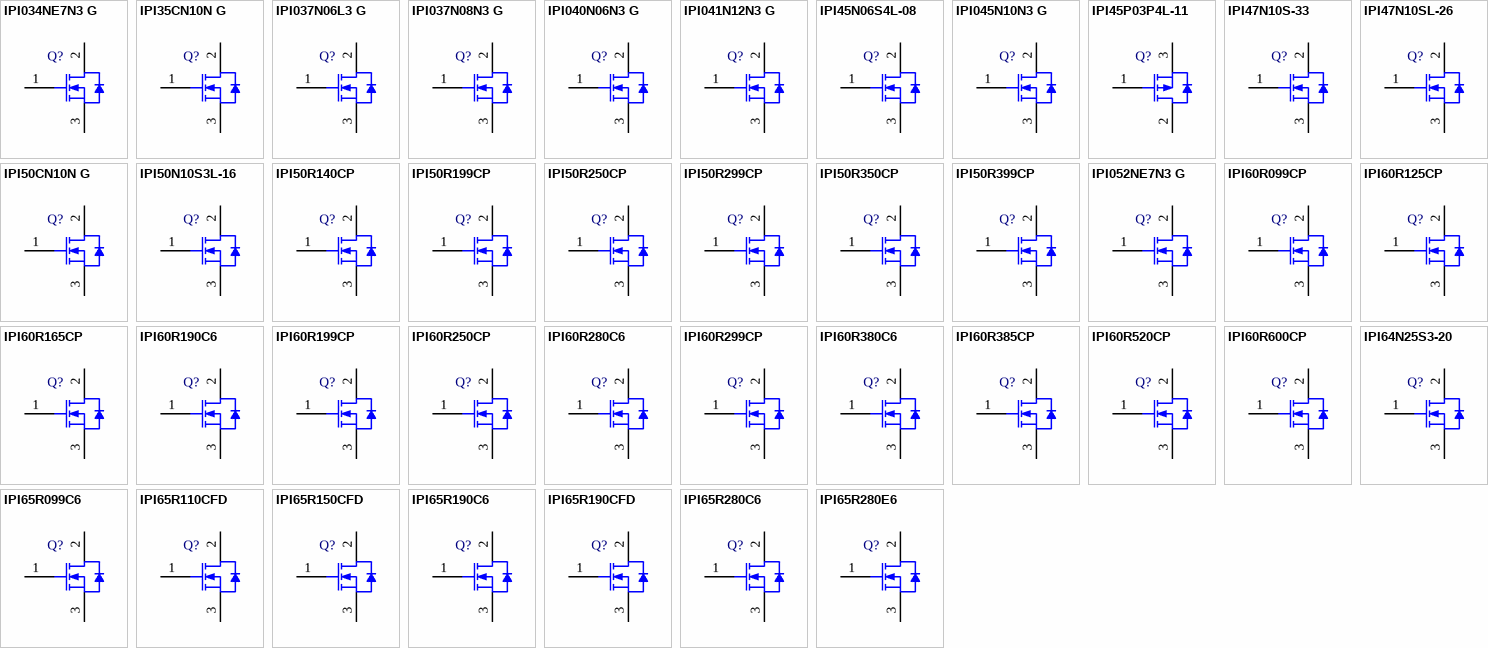
[diagram p22: symbols IPI034NE7N3 G to IPI65R280E6]

## IPI034NE7N3 G
designator Q?
N-Channel OptiMOS 3 Power-Transistor, 75 V VDS, 100 A ID, -55 to 175 degC, PG-TO262-3-1, Tube, Green; Manufacturer: Infineon; PartNumber: IPI034NE7N3 G; Green: TRUE; ID (max): 100 A; IDpuls (max): 400 A; Polarity: N; Ptot (max): 214 W; QG: 88 nC; RDS (on) (max): 3.4 mOhm; Rth: 0.7 K/W; RthJA (max): 62 K/W; VDS (max): 75 V; VGS(th) (max): 3.8 V; VGS(th) (min): 2.3 V; DatasheetVersion: Rev. 2.01; PackageVersion: Rev. 03, 05/2006; PackageReference: PG-TO262-3-1; PackageDescription: 3-Pin Plastic (Green) Transistor Single Outline Package, 10.03 x 8.98 mm Body, 2.54 mm Pitch; Supplier 1: Mouser; Supplier Part Number 1: 726-IPI034NE7N3G; Supplier 2: Digi-Key; Supplier Part Number 2: IPI034NE7N3 G-ND; Halogen-free: TRUE; Packing: Tube; RthJC (max): 0.7 K/W; Mounting Technology: Through Hole; ComponentLink1Description: Manufacturer URL; ComponentLink1URL: http://www.infineon.com/; ComponentLink2Description: Datasheet; ComponentLink2URL: http://www.infineon.com/dgdl/IPP_I034NE7N3_Rev2+01.pdf?folderId=db3a304313b8b5a60113cee8763b02d7&fileId=db3a304320d39d5901210ab6d74b2720; ComponentLink3Description: Package Specification; ComponentLink3URL: http://www.infineon.com/dgdl/DS_IPX65R420CFD_2_4.pdf?folderId=db3a3043156fd5730115c736bcc70ff2&fileId=db3a30432f91014f012f9c293f1a7399
footprint INF-PG-TO262-3-1_A (FM, 3-Leads, Body 10.03x4.436mm, Pitch 2.54mm)
pins: 1 GATE, 2 DRAIN, 3 SOURCE

## IPI35CN10N G
designator Q?
OptiMOS 2 Power-Transistor, 100 V VDS, PG-TO262-3-1, Tube, Green; Manufacturer: Infineon; PartNumber: IPI35CN10N G; Green: TRUE; Polarity: N; RDS (on) (max): 35 mOhm; VDS (max): 100 V; DatasheetVersion: Rev. 1.09; PackageVersion: Rev. 03, 05/2006; PackageReference: PG-TO262-3-1; PackageDescription: 3-Pin Plastic (Green) Transistor Single Outline Package, 10.03 x 8.98 mm Body, 2.54 mm Pitch; Supplier 1: Digi-Key; Supplier Part Number 1: IPI35CN10N G-ND; Halogen-free: TRUE; Mounting Technology: Through Hole; ComponentLink1Description: Manufacturer URL; ComponentLink1URL: http://www.infineon.com/; ComponentLink2Description: Datasheet; ComponentLink2URL: http://www.infineon.com/dgdl/IPP35CN10N_Rev19.pdf?folderId=db3a304313b8b5a60113cee8763b02d7&fileId=db3a304317a748360117cf1876cc1d1a; ComponentLink3Description: Package Specification; ComponentLink3URL: http://www.infineon.com/dgdl/DS_IPX65R420CFD_2_4.pdf?folderId=db3a3043156fd5730115c736bcc70ff2&fileId=db3a30432f91014f012f9c293f1a7399
footprint INF-PG-TO262-3-1_A (FM, 3-Leads, Body 10.03x4.436mm, Pitch 2.54mm)
pins: 1 GATE, 2 DRAIN, 3 SOURCE

## IPI037N06L3 G
designator Q?
N-Channel OptiMOS 3 Power-Transistor, 60 V VDS, 90 A ID, -55 to 175 degC, PG-TO262-3-1, Tube, Green; Manufacturer: Infineon; PartNumber: IPI037N06L3 G; Green: TRUE; ID (max): 90 A; IDpuls (max): 360 A; Polarity: N; Ptot (max): 167 W; QG: 59 nC; RDS (on) (max): 3.7 mOhm; RDS (on) (max) (@4.5V): 5.7 mOhm; Rth: 0.9 K/W; RthJA (max): 62 K/W; VDS (max): 60 V; VGS(th) (max): 2.2 V; VGS(th) (min): 1.2 V; DatasheetVersion: Rev. 2.7; PackageVersion: Rev. 03, 05/2006; PackageReference: PG-TO262-3-1; PackageDescription: 3-Pin Plastic (Green) Transistor Single Outline Package, 10.03 x 8.98 mm Body, 2.54 mm Pitch; Supplier 1: Farnell; Supplier Part Number 1: 1775594; Supplier 2: Digi-Key; Supplier Part Number 2: IPI037N06L3 G-ND; Halogen-free: TRUE; Packing: Tube; RthJC (max): 0.9 K/W; Mounting Technology: Through Hole; ComponentLink1Description: Manufacturer URL; ComponentLink1URL: http://www.infineon.com/; ComponentLink2Description: Datasheet; ComponentLink2URL: http://www.infineon.com/dgdl/IPP037N06L3_Rev2.7.pdf?folderId=db3a30431441fb5d01148ca9f1be0e77&fileId=db3a304327b8975001280241b2ec383b; ComponentLink3Description: Package Specification; ComponentLink3URL: http://www.infineon.com/dgdl/DS_IPX65R420CFD_2_4.pdf?folderId=db3a3043156fd5730115c736bcc70ff2&fileId=db3a30432f91014f012f9c293f1a7399
footprint INF-PG-TO262-3-1_A (FM, 3-Leads, Body 10.03x4.436mm, Pitch 2.54mm)
pins: 1 GATE, 2 DRAIN, 3 SOURCE

## IPI037N08N3 G
designator Q?
N-Channel OptiMOS 3 Power-Transistor, 80 V VDS, 100 A ID, -55 to 175 degC, PG-TO262-3-1, Tube, Green; Manufacturer: Infineon; PartNumber: IPI037N08N3 G; Green: TRUE; ID (max): 100 A; IDpuls (max): 400 A; Polarity: N; Ptot (max): 214 W; QG: 88 nC; RDS (on) (max): 3.75 mOhm; Rth: 0.7 K/W; RthJA (max): 62 K/W; VDS (max): 80 V; VGS(th) (max): 3.5 V; VGS(th) (min): 2 V; DatasheetVersion: Rev. 2.3; PackageVersion: Rev. 03, 05/2006; PackageReference: PG-TO262-3-1; PackageDescription: 3-Pin Plastic (Green) Transistor Single Outline Package, 10.03 x 8.98 mm Body, 2.54 mm Pitch; Supplier 1: Mouser; Supplier Part Number 1: 726-IPI037N08N3G; Supplier 2: Digi-Key; Supplier Part Number 2: IPI037N08N3 G-ND; Halogen-free: TRUE; Packing: Tube; RthJC (max): 0.7 K/W; Mounting Technology: Through Hole; ComponentLink1Description: Manufacturer URL; ComponentLink1URL: http://www.infineon.com/; ComponentLink2Description: Datasheet; ComponentLink2URL: http://www.infineon.com/dgdl/IPP037N08N3_Rev2.3.pdf?folderId=db3a304313b8b5a60113cee8763b02d7&fileId=db3a30431add1d95011ae8426111565b; ComponentLink3Description: Package Specification; ComponentLink3URL: http://www.infineon.com/dgdl/DS_IPX65R420CFD_2_4.pdf?folderId=db3a3043156fd5730115c736bcc70ff2&fileId=db3a30432f91014f012f9c293f1a7399
footprint INF-PG-TO262-3-1_A (FM, 3-Leads, Body 10.03x4.436mm, Pitch 2.54mm)
pins: 1 GATE, 2 DRAIN, 3 SOURCE

## IPI040N06N3 G
designator Q?
N-Channel OptiMOS 3 Power-Transistor, 60 V VDS, 90 A ID, -55 to 175 degC, PG-TO262-3-1, Tube, Green; Manufacturer: Infineon; PartNumber: IPI040N06N3 G; Green: TRUE; ID (max): 90 A; IDpuls (max): 360 A; Polarity: N; Ptot (max): 150 W; QG: 98 nC; RDS (on) (max): 4 mOhm; Rth: 1 K/W; RthJA (max): 62 K/W; RthJC (max): 0.8 K/W; VDS (max): 60 V; VGS(th) (max): 4 V; VGS(th) (min): 2 V; DatasheetVersion: Rev. 1.03; PackageVersion: Rev. 03, 05/2006; PackageReference: PG-TO262-3-1; PackageDescription: 3-Pin Plastic (Green) Transistor Single Outline Package, 10.03 x 8.98 mm Body, 2.54 mm Pitch; Supplier 1: Mouser; Supplier Part Number 1: 726-IPI040N06N3G; Supplier 2: Digi-Key; Supplier Part Number 2: IPI040N06N3 G-ND; Halogen-free: TRUE; Packing: Tube; Mounting Technology: Through Hole; ComponentLink1Description: Manufacturer URL; ComponentLink1URL: http://www.infineon.com/; ComponentLink2Description: Datasheet; ComponentLink2URL: http://www.infineon.com/dgdl/IPP040N06N3_Rev13.pdf?folderId=db3a304313b8b5a60113cee8763b02d7&fileId=db3a30432313ff5e01239f31f7be717f; ComponentLink3Description: Package Specification; ComponentLink3URL: http://www.infineon.com/dgdl/DS_IPX65R420CFD_2_4.pdf?folderId=db3a3043156fd5730115c736bcc70ff2&fileId=db3a30432f91014f012f9c293f1a7399
footprint INF-PG-TO262-3-1_A (FM, 3-Leads, Body 10.03x4.436mm, Pitch 2.54mm)
pins: 1 GATE, 2 DRAIN, 3 SOURCE

## IPI041N12N3 G
designator Q?
N-Channel OptiMOS 3 Power-Transistor, 120 V VDS, 120 A ID, -55 to 175 degC, PG-TO262-3-1, Tube, Green; Manufacturer: Infineon; PartNumber: IPI041N12N3 G; Green: TRUE; ID (max): 120 A; IDpuls (max): 480 A; Polarity: N; Ptot (max): 300 W; QG: 158 nC; RDS (on) (max): 4.1 mOhm; Rth: 0.5 K/W; RthJA (max): 62 K/W; VDS (max): 120 V; VGS(th) (max): 4 V; VGS(th) (min): 2 V; DatasheetVersion: Rev. 2.2; PackageVersion: Rev. 03, 05/2006; PackageReference: PG-TO262-3-1; PackageDescription: 3-Pin Plastic (Green) Transistor Single Outline Package, 10.03 x 8.98 mm Body, 2.54 mm Pitch; Supplier 1: Mouser; Supplier Part Number 1: 726-IPI041N12N3G; Supplier 2: Digi-Key; Supplier Part Number 2: IPI041N12N3 G-ND; Halogen-free: TRUE; Packing: Tube; RthJC (max): 0.5 K/W; Mounting Technology: Through Hole; ComponentLink1Description: Manufacturer URL; ComponentLink1URL: http://www.infineon.com/; ComponentLink2Description: Datasheet; ComponentLink2URL: http://www.infineon.com/dgdl/IPP_I_B041N12N3_Rev2.2.pdf?folderId=db3a304313b8b5a60113cee8763b02d7&fileId=db3a30432239cccd0122a75b86467ca4; ComponentLink3Description: Package Specification; ComponentLink3URL: http://www.infineon.com/dgdl/DS_IPX65R420CFD_2_4.pdf?folderId=db3a3043156fd5730115c736bcc70ff2&fileId=db3a30432f91014f012f9c293f1a7399
footprint INF-PG-TO262-3-1_A (FM, 3-Leads, Body 10.03x4.436mm, Pitch 2.54mm)
pins: 1 GATE, 2 DRAIN, 3 SOURCE

## IPI45N06S4L-08
designator Q?
OptiMOS-T2 Power-Transistor, 60 V VDS, 45 A ID, PG-TO262-3-1, Tube, Green; Manufacturer: Infineon; PartNumber: IPI45N06S4L-08; Green: TRUE; ID (max): 45 A; IDpuls (max): 180 A; Ptot (max): 71 W; QG: 49 nC; RDS (on) (max) (@10V): 8.2 mOhm; RDS (on) (max) (@4.5V): 14 mOhm; RthJC (max): 2.1 K/W; VDS (max): 60 V; VGS(th) (max): 2 V; VGS(th) (min): 1.2 V; DatasheetVersion: Rev. 1.0; PackageReference: PG-TO262-3-1; PackageDescription: 3-Pin Plastic (Green) Transistor Single Outline Package, 10 x 9.25 mm Body, 2.54 mm Pitch; Supplier 1: Mouser; Supplier Part Number 1: 726-IPI45N06S4L-08; Supplier 2: Digi-Key; Supplier Part Number 2: IPI45N06S4L-08-ND; Halogen-free: TRUE; Packing: Tube; Technology: OptiMOS-T2; Mounting Technology: Through Hole; ComponentLink1Description: Manufacturer URL; ComponentLink1URL: http://www.infineon.com/; ComponentLink2Description: Datasheet; ComponentLink2URL: http://www.infineon.com/dgdl/IPP_B_I45N06S4L-08_DS_10.pdf?folderId=db3a30431a5c32f2011a8084a04a6500&fileId=db3a30431ff98815012038fbf79a0d1c&location=en.Products.Automotive_ICs.Automotive_MOSFETs.Single__N-Channel_60V_MOSFETs.DATASHEET.IPP_B_I45N06S4L-08_DS_10.pdf; ComponentLink3Description: Package Specification; ComponentLink3URL: http://www.infineon.com/cms/packages/Leaded_and_through-hole/P-PG-TO262/P-PG-TO262-3-1.html?__locale=en
footprint INF-PG-TO262-3-1 (FM, 3-Leads, Body 10x4.4mm, Pitch 2.54mm)
pins: 1 GATE, 2 DRAIN, 3 SOURCE

## IPI045N10N3 G
designator Q?
N-Channel OptiMOS 3 Power-Transistor, 100 V VDS, 100 A ID, -55 to 175 degC, PG-TO262-3-1, Tube, Green; Manufacturer: Infineon; PartNumber: IPI045N10N3 G; Green: TRUE; ID (max): 100 A; IDpuls (max): 400 A; Polarity: N; Ptot (max): 214 W; QG: 88 nC; RDS (on) (max): 4.5 mOhm; Rth: 0.7 K/W; RthJA (max): 62 K/W; VDS (max): 100 V; VGS(th) (max): 3.5 V; VGS(th) (min): 2 V; DatasheetVersion: Rev. 2.5; PackageVersion: Rev. 03, 05/2006; PackageReference: PG-TO262-3-1; PackageDescription: 3-Pin Plastic (Green) Transistor Single Outline Package, 10.03 x 8.98 mm Body, 2.54 mm Pitch; Supplier 1: Mouser; Supplier Part Number 1: 726-IPI045N10N3G; Supplier 2: Digi-Key; Supplier Part Number 2: IPI045N10N3 G-ND; Halogen-free: TRUE; Packing: Tube; RthJC (max): 0.7 K/W; Mounting Technology: Through Hole; ComponentLink1Description: Manufacturer URL; ComponentLink1URL: http://www.infineon.com/; ComponentLink2Description: Datasheet; ComponentLink2URL: http://www.infineon.com/dgdl/IPP045N10N3+G_Rev2.5.pdf?folderId=db3a304313b8b5a60113cee8763b02d7&fileId=db3a30431ce5fb52011d1e8b0cc31586; ComponentLink3Description: Package Specification; ComponentLink3URL: http://www.infineon.com/dgdl/DS_IPX65R420CFD_2_4.pdf?folderId=db3a3043156fd5730115c736bcc70ff2&fileId=db3a30432f91014f012f9c293f1a7399
footprint INF-PG-TO262-3-1_A (FM, 3-Leads, Body 10.03x4.436mm, Pitch 2.54mm)
pins: 1 GATE, 2 DRAIN, 3 SOURCE

## IPI45P03P4L-11
designator Q?
OptiMOS-P2 Power-Transistor, -30 V VDS, -45 A ID, PG-TO262-3-1, Tube, Green; Manufacturer: Infineon; PartNumber: IPI45P03P4L-11; Green: TRUE; ID (max): -45 A; IDpuls (max): -180 A; Ptot (max): 58 W; QG: 42 nC; RDS (on) (max) (@10V): 11.1 mOhm; RDS (on) (max) (@4.5V): 18.7 mOhm; RthJC (max): 2.6 K/W; VDS (max): -30 V; VGS(th) (max): -2 V; VGS(th) (min): -1 V; DatasheetVersion: Rev. 1.0; PackageReference: PG-TO262-3-1; PackageDescription: 3-Pin Plastic (Green) Transistor Single Outline Package, 10 x 9.25 mm Body, 2.54 mm Pitch; Supplier 1: Mouser; Supplier Part Number 1: 726-IPI45P03P4L-11; Supplier 2: Digi-Key; Supplier Part Number 2: IPI45P03P4L-11-ND; Halogen-free: TRUE; Packing: Tube; Technology: OptiMOS-P2; Mounting Technology: Through Hole; ComponentLink1Description: Manufacturer URL; ComponentLink1URL: http://www.infineon.com/; ComponentLink2Description: Datasheet; ComponentLink2URL: http://www.infineon.com/dgdl/IPP_B_I45P03P4L-11_DS_10.pdf?folderId=db3a304314dca3890114ef902baa05f9&fileId=db3a30431ddc9372011e07ee39732802&location=en.Products.Automotive_ICs.Automotive_MOSFETs.Single__P-Channel_30V_MOSFETs.DATASHEET.IPP_B_I45P03P4L-11_DS_10.pdf; ComponentLink3Description: Package Specification; ComponentLink3URL: http://www.infineon.com/cms/packages/Leaded_and_through-hole/P-PG-TO262/P-PG-TO262-3-1.html?__locale=en
footprint INF-PG-TO262-3-1 (FM, 3-Leads, Body 10x4.4mm, Pitch 2.54mm)
pins: 1 GATE, 2 DRAIN, 3 SOURCE

## IPI47N10S-33
designator Q?
SIPMOS Power-Transistor, 100 V VDS, 47 A ID, PG-TO262-3-1, Tube, Green; Manufacturer: Infineon; PartNumber: IPI47N10S-33; Green: TRUE; ID (max): 47 A; IDpuls (max): 188 A; Ptot (max): 175 W; QG: 70 nC; RDS (on) (max) (@10V): 33 mOhm; RthJC (max): 0.85 K/W; VDS (max): 100 V; VGS(th) (max): 4 V; VGS(th) (min): 2.1 V; PackageReference: PG-TO262-3-1; PackageDescription: 3-Pin Plastic (Green) Transistor Single Outline Package, 10 x 9.25 mm Body, 2.54 mm Pitch; Supplier 1: Mouser; Supplier Part Number 1: 726-IPI47N10S-33; Supplier 2: Digi-Key; Supplier Part Number 2: IPI47N10S-33-ND; Halogen-free: TRUE; Packing: Tube; Technology: SIPMOS; Mounting Technology: Through Hole; ComponentLink1Description: Manufacturer URL; ComponentLink1URL: http://www.infineon.com/; ComponentLink2Description: Datasheet; ComponentLink2URL: http://www.infineon.com/dgdl/IPP_B_I47N10S-33.pdf?folderId=db3a304412b407950112b42a6a0a4339&fileId=db3a304412b407950112b42a6f52433e&location=en.Products.Automotive_ICs.Automotive_MOSFETs.Single__N-Channel_100V_MOSFETs.DATASHEET.IPP_B_I47N10S-33.pdf; ComponentLink3Description: Package Specification; ComponentLink3URL: http://www.infineon.com/cms/packages/Leaded_and_through-hole/P-PG-TO262/P-PG-TO262-3-1.html?__locale=en
footprint INF-PG-TO262-3-1 (FM, 3-Leads, Body 10x4.4mm, Pitch 2.54mm)
pins: 1 GATE, 2 DRAIN, 3 SOURCE

## IPI47N10SL-26
designator Q?
SIPMOS Power-Transistor, 100 V VDS, 47 A ID, PG-TO262-3-1, Tube, Green; Manufacturer: Infineon; PartNumber: IPI47N10SL-26; Green: TRUE; ID (max): 47 A; IDpuls (max): 188 A; Ptot (max): 175 W; QG: 90 nC; RDS (on) (max) (@10V): 26 mOhm; RDS (on) (max) (@4.5V): 40 mOhm; RthJC (max): 0.85 K/W; VDS (max): 100 V; VGS(th) (max): 2 V; VGS(th) (min): 1.2 V; PackageReference: PG-TO262-3-1; PackageDescription: 3-Pin Plastic (Green) Transistor Single Outline Package, 10 x 9.25 mm Body, 2.54 mm Pitch; Supplier 1: Mouser; Supplier Part Number 1: 726-IPI47N10SL-26; Supplier 2: Digi-Key; Supplier Part Number 2: IPI47N10SL-26-ND; Halogen-free: TRUE; Packing: Tube; Technology: SIPMOS; Mounting Technology: Through Hole; ComponentLink1Description: Manufacturer URL; ComponentLink1URL: http://www.infineon.com/; ComponentLink2Description: Datasheet; ComponentLink2URL: http://www.infineon.com/dgdl/IPP_B_I47N10SL-26.pdf?folderId=db3a304412b407950112b42a6a0a4339&fileId=db3a304412b407950112b42a6a78433a&location=en.Products.Automotive_ICs.Automotive_MOSFETs.Single__N-Channel_100V_MOSFETs.DATASHEET.IPP_B_I47N10SL-26.pdf; ComponentLink3Description: Package Specification; ComponentLink3URL: http://www.infineon.com/cms/packages/Leaded_and_through-hole/P-PG-TO262/P-PG-TO262-3-1.html?__locale=en
footprint INF-PG-TO262-3-1 (FM, 3-Leads, Body 10x4.4mm, Pitch 2.54mm)
pins: 1 GATE, 2 DRAIN, 3 SOURCE

## IPI50CN10N G
designator Q?
OptiMOS 2 Power-Transistor, 100 V VDS, PG-TO262-3-1, Tube, Green; Manufacturer: Infineon; PartNumber: IPI50CN10N G; Green: TRUE; Polarity: N; RDS (on) (max): 50 mOhm; VDS (max): 100 V; DatasheetVersion: Rev. 1.07; PackageVersion: Rev. 03, 05/2006; PackageReference: PG-TO262-3-1; PackageDescription: 3-Pin Plastic (Green) Transistor Single Outline Package, 10.03 x 8.98 mm Body, 2.54 mm Pitch; Supplier 1: Newark; Supplier Part Number 1: 60R2724; Supplier 2: Farnell; Supplier Part Number 2: 1775609; Supplier 3: Digi-Key; Supplier Part Number 3: IPI50CN10N G-ND; Halogen-free: TRUE; Mounting Technology: Through Hole; ComponentLink1Description: Manufacturer URL; ComponentLink1URL: http://www.infineon.com/; ComponentLink2Description: Datasheet; ComponentLink2URL: http://www.infineon.com/dgdl/IPP50CN10N_Rev17.pdf?folderId=db3a304313b8b5a60113cee8763b02d7&fileId=db3a304317a748360117cf1b1b381db6; ComponentLink3Description: Package Specification; ComponentLink3URL: http://www.infineon.com/dgdl/DS_IPX65R420CFD_2_4.pdf?folderId=db3a3043156fd5730115c736bcc70ff2&fileId=db3a30432f91014f012f9c293f1a7399
footprint INF-PG-TO262-3-1_A (FM, 3-Leads, Body 10.03x4.436mm, Pitch 2.54mm)
pins: 1 GATE, 2 DRAIN, 3 SOURCE